# Altium footprint library QFN-38 (5x7).PcbLib: 1 footprints
Each footprint in its own frame and in the unit in brackets; x right, y up, seen from the top. Pads: shape width x height; smd on the part's side, far side on the other; paste and mask are expansions set on the pad; w line width, h text height; cw(c..) or ccw(c..) is an arc to the next point about the centre after c.
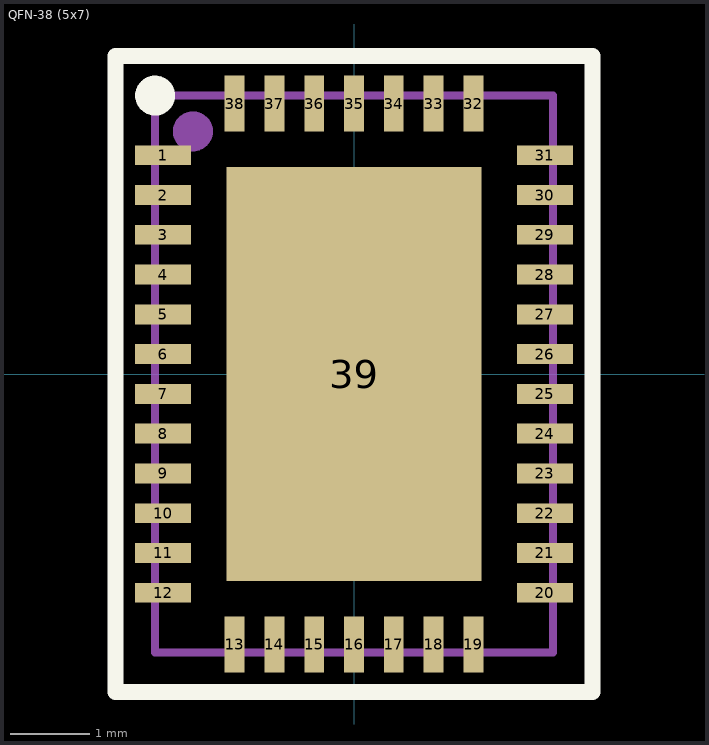
[diagram p0: the footprint, top view; thin cyan lines are the x and y axes]

## QFN-38 (5x7) [mm]
height 0.55
pads (39):
  rect 0.7x0.25 smd mask+0.05: 1(-2.4,2.75) 2(-2.4,2.25) 3(-2.4,1.75) 4(-2.4,1.25) 5(-2.4,0.75) 6(-2.4,0.25) 7(-2.4,-0.25) 8(-2.4,-0.75) 9(-2.4,-1.25) 10(-2.4,-1.75) 11(-2.4,-2.25) 12(-2.4,-2.75) 20(2.4,-2.75) 21(2.4,-2.25) 22(2.4,-1.75) 23(2.4,-1.25) 24(2.4,-0.75) 25(2.4,-0.25) 26(2.4,0.25) 27(2.4,0.75) 28(2.4,1.25) 29(2.4,1.75) 30(2.4,2.25) 31(2.4,2.75)
  rect 0.25x0.7 smd mask+0.05: 13(-1.5,-3.4) 14(-1,-3.4) 15(-0.5,-3.4) 16(0,-3.4) 17(0.5,-3.4) 18(1,-3.4) 19(1.5,-3.4) 32(1.5,3.4) 33(1,3.4) 34(0.5,3.4) 35(0,3.4) 36(-0.5,3.4) 37(-1,3.4) 38(-1.5,3.4)
  rect 3.2x5.2 smd mask+0.05: 39(0,0)
Top Overlay:
  circle w0.254: c-2.5,3.5 r0.125
  lines w0.2: -3,-4 -3,4 3,4 3,-4 -3,-4
Top Assembly:
  circle w0.254: c-2.025,3.05 r0.125
  lines w0.1: -2.5,-3.5 -2.5,3.5 2.5,3.5 2.5,-3.5 -2.5,-3.5
  text "'.Designator'" at 0,0 h0.7
3D body "User Library-QFN-38.STEP": height 1.04, standoff -0.09, extent -2.51,-3.52 2.51,3.5